# EAGLE library part 690367291476 (library Board_to_Board_Connectors_rev15d)
WR-MM Female SMT Connector with Latch and with Polarization, 14 Pins=>Code : Con_BTB_MM_Female_SMT_690367291476 <http://katalog.we-online.de/media/thumbs2/eican/thb_Con_BTB_MM_Female_SMT_69036729xx76_pf2.jpg> Details see: http://katalog.we-online.de/en/em/6903_6729_xx_76 Created 2014-06-04, Karrer Zheng 2014 (C) Würth Elektronik
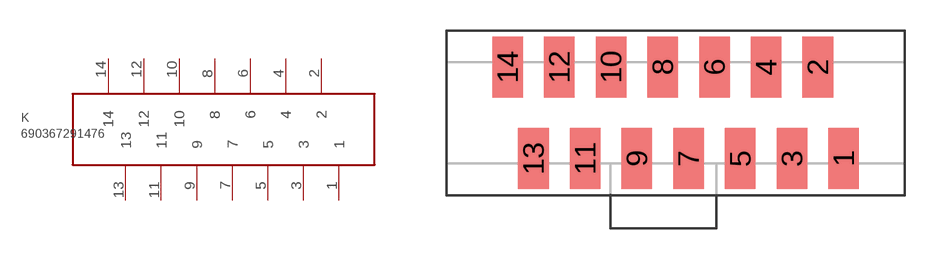
[diagram p380: symbol with the pads of 690367291476; footprint 690367291476]

Designator prefix K

## 690367291476  [690367291476]
1  1  pas
2  2  pas
3  3  pas
4  4  pas
5  5  pas
6  6  pas
7  7  pas
8  8  pas
9  9  pas
10  10  pas
11  11  pas
12  12  pas
13  13  pas
14  14  pas

## Footprint 690367291476 (pad centres in mm)
WR-MM Female SMT Connector with Latch and with Polarization, 14 pins
smd 1.5 x 3: 1 6.35,-2.25; 2 5.08,2.25; 3 3.81,-2.25; 4 2.54,2.25; 5 1.27,-2.25; 6 0,2.25; 7 -1.27,-2.25; 8 -2.54,2.25; 9 -3.81,-2.25; 10 -5.08,2.25; 11 -6.35,-2.25; 12 -7.62,2.25; 13 -8.89,-2.25; 14 -10.16,2.25